# EAGLE library part E220-400T30 (library bear_altimeters_lib)
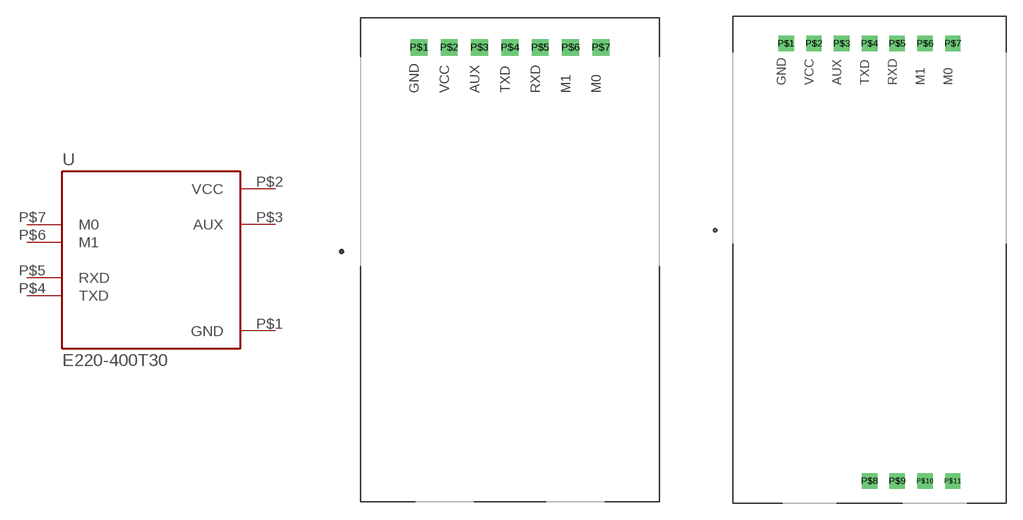
[diagram p10: symbol with the pads of E22-900T30; footprints E22-900T30, E22-900T30V2]

Designator prefix -

## E220-400T30"  [E22-900T30]
P$1  GND  pwr
P$2  VCC  pwr
P$3  AUX  out
P$4  TXD  out
P$5  RXD  in
P$6  M1  in
P$7  M0  in

## E220-400T30E22-900T30V2  [E22-900T30V2]
Pads as for E22-900T30

## Footprint E22-900T30 (pad centres in mm)
drill 0.9 square: P$1 -7.62,17.78; P$2 -5.08,17.78; P$3 -2.54,17.78; P$4 0,17.78; P$5 2.54,17.78; P$6 5.08,17.78; P$7 7.62,17.78

## Footprint E22-900T30V2 (pad centres in mm)
drill 0.9 square: P$1 -12.62,9.78; P$2 -10.08,9.78; P$3 -7.54,9.78; P$4 -5,9.78; P$5 -2.46,9.78; P$6 0.08,9.78; P$7 2.62,9.78; P$8 -5,-30.22; P$9 -2.46,-30.22; P$10 0.08,-30.22; P$11 2.62,-30.22